# Altium footprint library SWITCH_inches.PcbLib: 1 footprints
Each footprint in its own frame and in the unit in brackets; x right, y up, seen from the top. Pads: shape width x height; smd on the part's side, far side on the other; paste and mask are expansions set on the pad; w line width, h text height; cw(c..) or ccw(c..) is an arc to the next point about the centre after c.
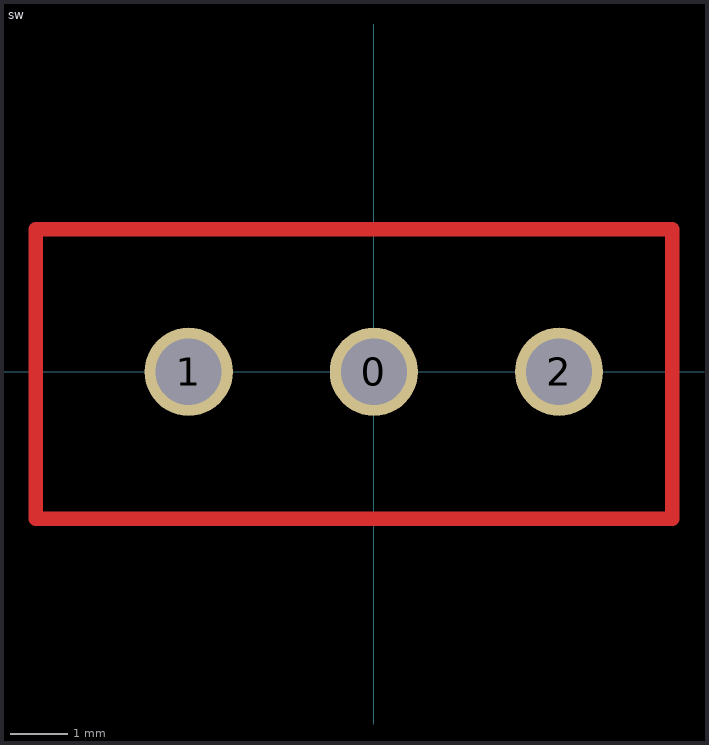
[diagram p0: the footprint, top view; thin cyan lines are the x and y axes]

## sw [mil]
height 10
pads (3):
  round 60 hole 45: 0(0,0) 1(-126,0) 2(126,0)
Top Layer:
  lines w10: -230,-100 203,-100 203,97 -230,97 -230,-100